# Altium footprint library CAP_1mkF_GRM_0805.PcbLib: 3 footprints
Each footprint in its own frame and in the unit in brackets; x right, y up, seen from the top. Pads: shape width x height; smd on the part's side, far side on the other; paste and mask are expansions set on the pad; w line width, h text height; cw(c..) or ccw(c..) is an arc to the next point about the centre after c.
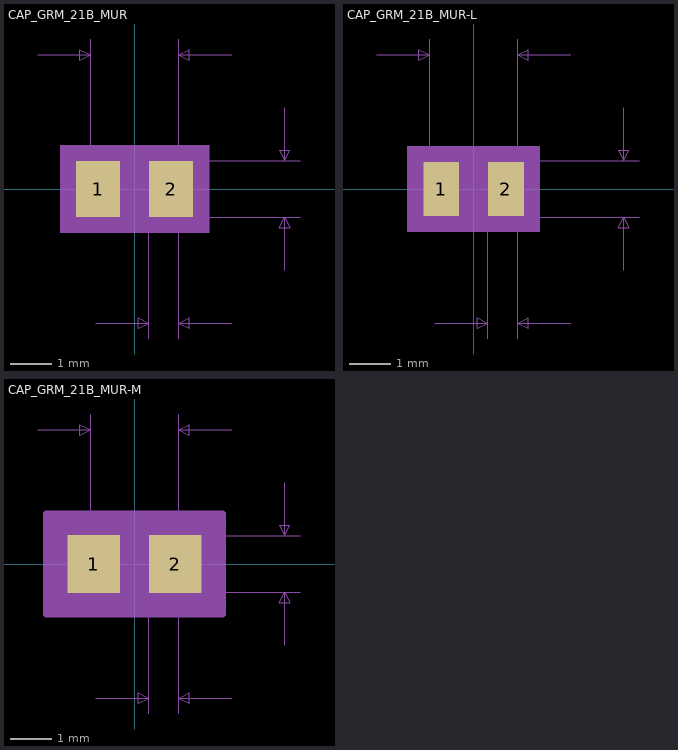
[diagram p0: the footprints below, top view; thin cyan lines are the x and y axes]

## CAP_GRM_21B_MUR [mil]
pads (2):
  rect 41.78x53 smd paste+0 mask+0: 1(-34.39,0) 2(34.39,0)
Mechanical 5:
  region: 70.28,-41.5 -70.28,-41.5 -70.28,41.5 70.28,41.5
Mechanical 7:
  lines w1: -91.5,126.5 -41.5,126.5 ; -41.5,0 -41.5,141.5 ; -36.5,-126.5 13.5,-126.5 ; 0,-26.5 156.5,-26.5 ; 0,26.5 156.5,26.5 ; 13.5,-141.5 13.5,0 ; 41.5,-141.5 41.5,0 41.5,141.5 ; 91.5,-126.5 41.5,-126.5 ; 91.5,126.5 41.5,126.5 ; 141.5,-76.5 141.5,-26.5 ; 141.5,76.5 141.5,26.5 ; -41.5,126.5 -51.5,131.5 -51.5,121.5 -41.5,126.5 ; 13.5,-126.5 3.5,-121.5 3.5,-131.5 13.5,-126.5 ; 41.5,-126.5 51.5,-121.5 51.5,-131.5 41.5,-126.5 ; 41.5,126.5 51.5,131.5 51.5,121.5 41.5,126.5 ; 141.5,-26.5 136.5,-36.5 146.5,-36.5 141.5,-26.5 ; 141.5,26.5 136.5,36.5 146.5,36.5 141.5,26.5
  text "Default Padstyle: r106_135" at -325,-296.5 h50
  text "Alternate 1 Padstyle: b152_229h76" at -412.5,-396.5 h50
  text "Alternate 2 Padstyle: b229_152h76" at -412.5,-496.5 h50
  text "0.053in/1.346mm" at 161.5,-12.5 h25
  text "0.083in/2.108mm" at -93.75,146.5 h25
  text "0.028in/0.711mm" at -66.25,-171.5 h25
Mechanical 13:
  lines w1: -41.5,-26.5 -41.5,26.5 ; -41.5,-26.5 -13.5,-26.5 -13.5,26.5 -41.5,26.5 ; -41.5,-26.5 41.5,-26.5 ; -41.5,-26.5 -41.5,26.5 ; -41.5,26.5 41.5,26.5 ; 41.5,-26.5 13.5,-26.5 13.5,26.5 41.5,26.5 ; 41.5,-26.5 41.5,26.5 ; 41.5,-26.5 41.5,26.5
Mechanical 15:
  region: 65.28,-36.5 -65.28,-36.5 -65.28,36.5 65.28,36.5
  lines w6: -65.28,-36.5 -65.28,36.5 65.28,36.5 65.28,-36.5 -65.28,-36.5
3D body "CAP_GRM_21B_MUR.step": height 52.99, standoff 0, extent -41.49,-26.49 41.51,26.5
3D body: height 10, standoff 0, extent 0,0 10,10

## CAP_GRM_21B_MUR-L [mil]
pads (2):
  rect 33.91x51.03 smd paste+0 mask+0: 1(-30.45,0) 2(30.45,0)
Mechanical 5:
  region: 62.41,-40.52 -62.41,-40.52 -62.41,40.52 62.41,40.52
Mechanical 7:
  lines w1: -91.5,126.5 -41.5,126.5 ; -41.5,0 -41.5,141.5 ; -36.5,-126.5 13.5,-126.5 ; 0,-26.5 156.5,-26.5 ; 0,26.5 156.5,26.5 ; 13.5,-141.5 13.5,0 ; 41.5,-141.5 41.5,0 41.5,141.5 ; 91.5,-126.5 41.5,-126.5 ; 91.5,126.5 41.5,126.5 ; 141.5,-76.5 141.5,-26.5 ; 141.5,76.5 141.5,26.5 ; -41.5,126.5 -51.5,131.5 -51.5,121.5 -41.5,126.5 ; 13.5,-126.5 3.5,-121.5 3.5,-131.5 13.5,-126.5 ; 41.5,-126.5 51.5,-121.5 51.5,-131.5 41.5,-126.5 ; 41.5,126.5 51.5,131.5 51.5,121.5 41.5,126.5 ; 141.5,-26.5 136.5,-36.5 146.5,-36.5 141.5,-26.5 ; 141.5,26.5 136.5,36.5 146.5,36.5 141.5,26.5
  text "Default Padstyle: r86_130" at -312.5,-295.52 h50
  text "Alternate 1 Padstyle: b152_229h76" at -412.5,-395.52 h50
  text "Alternate 2 Padstyle: b229_152h76" at -412.5,-495.52 h50
  text "0.053in/1.346mm" at 161.5,-12.5 h25
  text "0.083in/2.108mm" at -93.75,146.5 h25
  text "0.028in/0.711mm" at -66.25,-171.5 h25
Mechanical 13:
  lines w1: -41.5,-26.5 -41.5,26.5 ; -41.5,-26.5 -13.5,-26.5 -13.5,26.5 -41.5,26.5 ; -41.5,-26.5 41.5,-26.5 ; -41.5,-26.5 -41.5,26.5 ; -41.5,26.5 41.5,26.5 ; 41.5,-26.5 13.5,-26.5 13.5,26.5 41.5,26.5 ; 41.5,-26.5 41.5,26.5 ; 41.5,-26.5 41.5,26.5
Mechanical 15:
  region: 51.41,-29.52 -51.41,-29.52 -51.41,29.52 51.41,29.52
  lines w6: -51.41,-29.52 -51.41,29.52 51.41,29.52 51.41,-29.52 -51.41,-29.52
3D body: height 10, standoff 0, extent 0,0 10,10

## CAP_GRM_21B_MUR-M [mil]
pads (2):
  rect 49.65x54.97 smd paste+0 mask+0: 1(-38.33,0) 2(38.33,0)
Mechanical 5:
  region: 78.15,-42.48 -78.15,-42.48 -78.15,42.48 78.15,42.48
Mechanical 7:
  lines w1: -91.5,126.5 -41.5,126.5 ; -41.5,0 -41.5,141.5 ; -36.5,-126.5 13.5,-126.5 ; 0,-26.5 156.5,-26.5 ; 0,26.5 156.5,26.5 ; 13.5,-141.5 13.5,0 ; 41.5,-141.5 41.5,0 41.5,141.5 ; 91.5,-126.5 41.5,-126.5 ; 91.5,126.5 41.5,126.5 ; 141.5,-76.5 141.5,-26.5 ; 141.5,76.5 141.5,26.5 ; -41.5,126.5 -51.5,131.5 -51.5,121.5 -41.5,126.5 ; 13.5,-126.5 3.5,-121.5 3.5,-131.5 13.5,-126.5 ; 41.5,-126.5 51.5,-121.5 51.5,-131.5 41.5,-126.5 ; 41.5,126.5 51.5,131.5 51.5,121.5 41.5,126.5 ; 141.5,-26.5 136.5,-36.5 146.5,-36.5 141.5,-26.5 ; 141.5,26.5 136.5,36.5 146.5,36.5 141.5,26.5
  text "Default Padstyle: r126_140" at -325,-297.48 h50
  text "Alternate 1 Padstyle: b152_229h76" at -412.5,-397.48 h50
  text "Alternate 2 Padstyle: b229_152h76" at -412.5,-497.48 h50
  text "0.053in/1.346mm" at 161.5,-12.5 h25
  text "0.083in/2.108mm" at -93.75,146.5 h25
  text "0.028in/0.711mm" at -66.25,-171.5 h25
Mechanical 13:
  lines w1: -41.5,-26.5 -41.5,26.5 ; -41.5,-26.5 -13.5,-26.5 -13.5,26.5 -41.5,26.5 ; -41.5,-26.5 41.5,-26.5 ; -41.5,-26.5 -41.5,26.5 ; -41.5,26.5 41.5,26.5 ; 41.5,-26.5 13.5,-26.5 13.5,26.5 41.5,26.5 ; 41.5,-26.5 41.5,26.5 ; 41.5,-26.5 41.5,26.5
Mechanical 15:
  region: 83.15,-47.48 -83.15,-47.48 -83.15,47.48 83.15,47.48
  lines w6: -83.15,-47.48 -83.15,47.48 83.15,47.48 83.15,-47.48 -83.15,-47.48
3D body: height 10, standoff 0, extent 0,0 10,10